# EAGLE library part GP2Y1010AU0F (library citysensor)
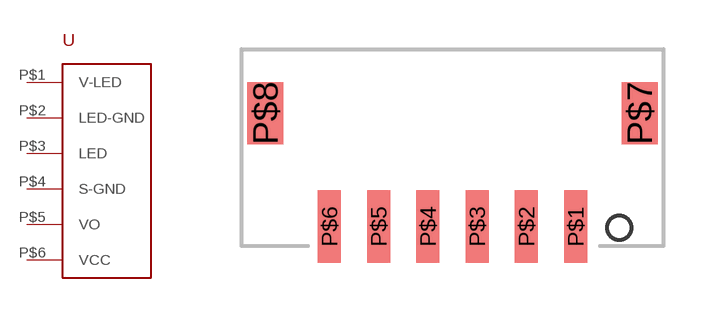
[diagram p2: symbol with the pads of S6B-ZR-SM4A-TF; footprint S6B-ZR-SM4A-TF]

Designator prefix -

## GP2Y1010AU0F  [S6B-ZR-SM4A-TF]
P$1  V-LED
P$2  LED-GND
P$3  LED
P$4  S-GND
P$5  VO
P$6  VCC

## Footprint S6B-ZR-SM4A-TF (pad centres in mm)
smd 0.7 x 2.2: P$1 3.75,-2.5; P$2 2.25,-2.5; P$3 0.75,-2.5; P$4 -0.75,-2.5; P$5 -2.25,-2.5; P$6 -3.75,-2.5
smd 1.1 x 1.9: P$7 5.7,0.95; P$8 -5.7,0.95